# EAGLE library part SC810 (library (custom)-new-components)
SC810 - Single Input/Single Mode. Single-cell Li-ion Charger
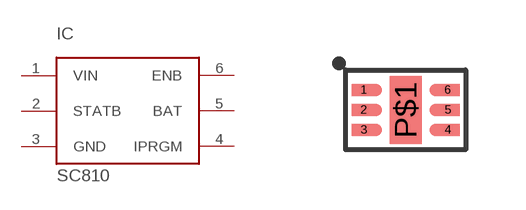
[diagram p5: symbol with the pads of SC810; footprint SC810]

Designator prefix IC

## SC810  [SC810]
1  VIN
2  STATB
3  GND
4  IPRGM
5  BAT
6  ENB

## Footprint SC810 (pad centres in mm)
smd 0.6 x 0.3: 1 -1.05,0.5; 2 -1.05,0; 3 -1.05,-0.5; 4 1.05,-0.5; 5 1.05,0; 6 1.05,0.5
smd 0.8 x 1.7: P$1 0,0